# Altium schematic symbol library Schlib_Microsemi.SchLib: 1 symbol
Pins are listed as number, name and electrical type; pins without a type are passive.

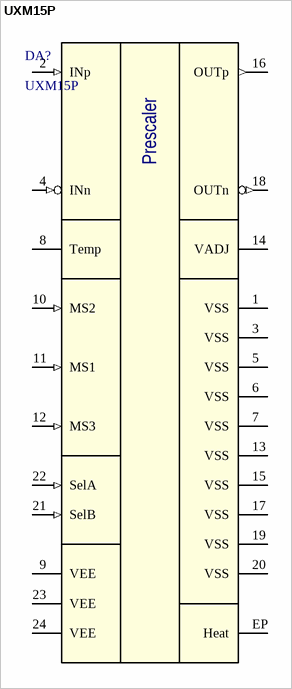
[diagram p0: symbol UXM15P]

## UXM15P
designator DA?
DC-15 GHz Programmable Integer-N Prescaler; PartNumber: UXM15P
footprint QFN24 (QFN, 24-Leads, Body 4.00x4.00mm, Pitch 0.50mm, Thermal Pad 2.50x2.50mm, IPC Medium Density)
pins: 1 VSS (power), 2 INp (in), 3 VSS (power), 4 INn (in), 5 VSS (power), 6 VSS (power), 7 VSS (power), 8 Temp, 9 VEE (power), 10 MS2 (in), 11 MS1 (in), 12 MS3 (in), 13 VSS (power), 14 VADJ, 15 VSS (power), 16 OUTp (out), 17 VSS (power), 18 OUTn (out), 19 VSS (power), 20 VSS (power), 21 SelB (in), 22 SelA (in), 23 VEE (power), 24 VEE (power), EP Heat (power)
text: Prescaler